# Altium footprint library ECB02蓝牙模块封装库.PcbLib: 23 footprints (part 1 of 2)
Each footprint in its own frame and in the unit in brackets; x right, y up, seen from the top. Pads: shape width x height; smd on the part's side, far side on the other; paste and mask are expansions set on the pad; w line width, h text height; cw(c..) or ccw(c..) is an arc to the next point about the centre after c.
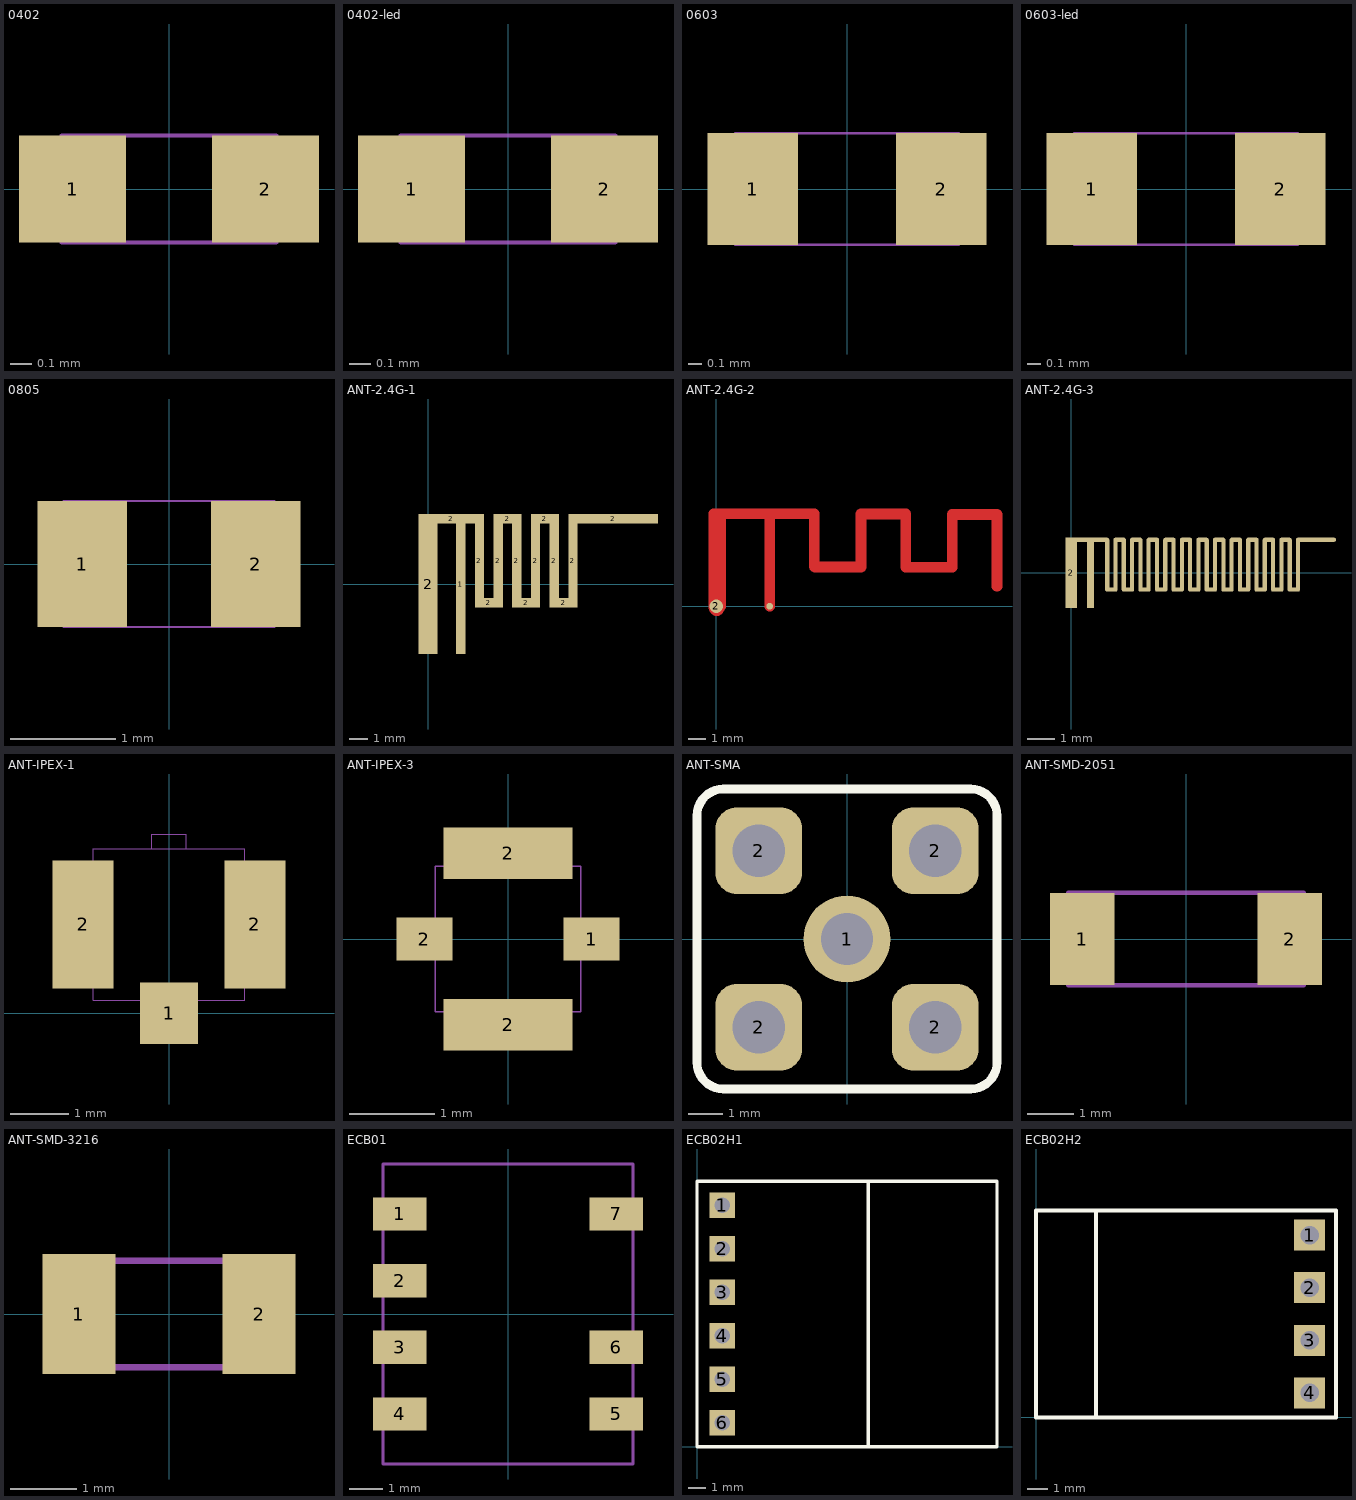
[diagram p0: the footprints below, top view; thin cyan lines are the x and y axes]

## 0402 [mm]
pads (2):
  rect 0.5x0.5 smd paste+0: 1(-0.45,0) 2(0.45,0)
Mechanical 1:
  lines w0.02: -0.25,-0.25 -0.25,0.25 ; 0.25,-0.25 0.25,0.25 ; -0.5,-0.25 -0.5,0.25 0.5,0.25 0.5,-0.25 -0.5,-0.25

## 0402-led [mm]
pads (2):
  rect 0.5x0.5 smd paste+0: 1(-0.45,0) 2(0.45,0)
Mechanical 1:
  lines w0.02: -0.25,-0.25 -0.25,0.25 ; 0.25,-0.25 0.25,0.25 ; -0.5,-0.25 0.5,-0.25 0.5,0.25 -0.5,0.25 -0.5,-0.25
  text "+" at -0.67,-0.1 h0.2

## 0603 [mm]
pads (2):
  rect 0.65x0.8 smd paste+0: 1(-0.675,0) 2(0.675,0)
Mechanical 1:
  lines w0.02: -0.5,-0.4 -0.5,0.4 ; 0.5,-0.4 0.5,0.4 ; -0.8,-0.4 0.8,-0.4 0.8,0.4 -0.8,0.4 -0.8,-0.4

## 0603-led [mm]
pads (2):
  rect 0.65x0.8 smd paste+0: 1(-0.675,0) 2(0.675,0)
Mechanical 1:
  lines w0.02: -0.5,-0.4 -0.5,0.4 ; 0.5,-0.4 0.5,0.4 ; -0.8,-0.4 -0.8,0.4 0.8,0.4 0.8,-0.4 -0.8,-0.4
  text "+" at -0.98,-0.1 h0.2

## 0805 [mm]
pads (2):
  rect 0.85x1.2 smd paste+0: 1(-0.825,0) 2(0.825,0)
Mechanical 1:
  lines w0.02: -0.6,-0.6 -0.6,0.6 ; 0.6,-0.6 0.6,0.6 ; -1,-0.6 -1,0.6 1,0.6 1,-0.6 -1,-0.6

## ANT-2.4G-1 [mm]
pads (15):
  rect 0.5x7.5 smd: 1(1.75,0)
  rect 1x7.5 smd: 2(0,0)
  rect 3.5x0.5 smd: 2(1.25,3.5)
  rect 0.5x5 smd: 2(2.75,1.25) 2(3.75,1.25) 2(4.75,1.25) 2(5.75,1.25) 2(6.75,1.25) 2(7.75,1.25)
  rect 1.5x0.5 smd: 2(3.25,-1) 2(4.25,3.5) 2(5.25,-1) 2(6.25,3.5) 2(7.25,-1)
  rect 4.8x0.5 smd: 2(9.9,3.5)

## ANT-2.4G-2 [mil]
pads (2):
  round 15 smd: 1(118,0)
  round 30 smd: 2(0,0)
Top Layer:
  lines w23.62: -6,0.13 -6,205 10,205 ; -6,3.53 ccw(c13.53,3.53) -0.28,-10.28 ; -6,6.46 ccw(c12.68,6.46) -0.53,-6.75 ; 2.28,-10.28 ccw(c-16.36,8.36) 10,8.36 ; 4.53,-6.75 ccw(c-8.68,6.46) 10,6.46 ; 10,0.13 10,205 ; 118,0.13 118,205 ; 217,88 217,205 118,205 ; 219,87 320,87 320,204 419,204 419,87 ; 421,86 522,86 522,203 621,203 621,44 ; 10,205 118,205

## ANT-2.4G-3 [mm]
pads (52):
  rect 0.25x2.55 smd paste+0 mask+0.102: 1(0.7,0)
  oval 0.8x0.15 smd paste+0 mask+0.102: 1(0.975,1.2)
  oval 0.15x1.95 smd paste+0 mask+0.102: 1(1.3,0.3) 1(1.6,0.3) 1(1.9,0.3) 1(2.2,0.3) 1(2.5,0.3) 1(2.8,0.3) 1(3.1,0.3) 1(3.4,0.3) 1(3.7,0.3) 1(4,0.3) 1(4.3,0.3) 1(4.6,0.3) 1(4.9,0.3) 1(5.2,0.3) 1(5.5,0.3) 1(5.8,0.3) 1(6.1,0.3) 1(6.4,0.3) 1(6.7,0.3) 1(7,0.3) 1(7.3,0.3) 1(7.6,0.3) 1(7.9,0.3) 1(8.2,0.3)
  oval 0.45x0.15 smd paste+0 mask+0.102: 1(1.45,-0.6) 1(1.75,1.2) 1(2.05,-0.6) 1(2.35,1.2) 1(2.65,-0.6) 1(2.95,1.2) 1(3.25,-0.6) 1(3.55,1.2) 1(3.85,-0.6) 1(4.15,1.2) 1(4.45,-0.6) 1(4.75,1.2) 1(5.05,-0.6) 1(5.35,1.2) 1(5.65,-0.6) 1(5.95,1.2) 1(6.25,-0.6) 1(6.55,1.2) 1(6.85,-0.6) 1(7.15,1.2) 1(7.45,-0.6) 1(7.75,1.2) 1(8.05,-0.6)
  oval 1.45x0.15 smd mask+0.102: 1(8.85,1.2)
  rect 0.4x2.55 smd paste+0 mask+0.102: 2(0,0)
  oval 1.025x0.15 smd mask+0.102: 2(0.312,1.2)

## ANT-IPEX-1 [mm]
pads (3):
  rect 1x1.05 smd: 1(0,0)
  rect 1.05x2.2 smd: 2(-1.475,1.525) 2(1.475,1.525)
Mechanical 1:
  lines w0.02: -1.3,0.625 -1.5,0.625 -1.5,2.425 -1.3,2.425 ; -0.3,0.225 -0.3,-0.025 0.3,-0.025 0.3,0.225 ; -0.3,2.825 -0.3,3.075 0.3,3.075 0.3,2.825 ; 1.3,0.625 1.5,0.625 1.5,2.425 1.3,2.425 ; -1.3,0.225 1.3,0.225 1.3,2.825 -1.3,2.825 -1.3,0.225

## ANT-IPEX-3 [mm]
pads (4):
  rect 0.65x0.5 smd: 1(0.975,0) 2(-0.975,0)
  rect 1.5x0.6 smd: 2(0,-1) 2(0,1)
Mechanical 1:
  lines w0.02: -0.855,-0.175 -1,-0.175 -1,0.175 -0.855,0.175 ; -0.65,-0.85 -0.65,-1 0.65,-1 0.65,-0.85 ; -0.65,0.85 -0.65,1 0.65,1 0.65,0.85 ; 0.855,-0.175 1,-0.175 1,0.175 0.855,0.175 ; -0.85,-0.85 0.85,-0.85 0.85,0.85 -0.85,0.85 -0.85,-0.85

## ANT-SMA [mm]
pads (5):
  round 2.5 hole 1.5: 1(0,0)
  rrect50% 2.5x2.5 hole 1.5: 2(-2.54,-2.54) 2(-2.54,2.54) 2(2.54,-2.54) 2(2.54,2.54)
Top Overlay:
  lines w0.254: -4.318,-3.556 ccw(c-3.556,-3.556) -3.556,-4.318 3.556,-4.318 ccw(c3.556,-3.556) 4.318,-3.556 4.318,3.556 ccw(c3.556,3.556) 3.556,4.318 -3.556,4.318 ccw(c-3.556,3.556) -4.318,3.556 -4.318,-3.556
3D body "Samtec-SMA-J-P-H-RA-TH1 (1).step": height 3.24, standoff -10.86, extent -3.556,-11.614 3.444,3.486

## ANT-SMD-2051 [mm]
height 0.85
pads (2):
  rect 1.4x2 smd: 1(-2.25,0) 2(2.25,0)
Mechanical 1:
  lines w0.1: -2.55,-1 -2.55,1 2.55,1 2.55,-1 -2.55,-1

## ANT-SMD-3216 [mm]
pads (2):
  rect 1.1x1.8 smd: 1(-1.35,0) 2(1.35,0)
Mechanical 1:
  lines w0.1: -1.1,-0.8 -1.1,0.8 ; 1.1,-0.8 1.1,0.8 ; -1.6,-0.8 -1.6,0.8 1.6,0.8 1.6,-0.8 -1.6,-0.8

## ECB01 [mm]
pads (7):
  rect 1.6x1 smd: 1(-3.25,3) 2(-3.25,1) 3(-3.25,-1) 4(-3.25,-3) 5(3.25,-3) 6(3.25,-1) 7(3.25,3)
Mechanical 1:
  lines w0.1: -3.75,-4.5 3.75,-4.5 3.75,4.5 -3.75,4.5 -3.75,-4.5

## ECB02H1 [mm]
pads (6):
  rect 1.5x1.5 hole 0.9: 1(1.48,14.1) 2(1.48,11.56) 3(1.48,9.02) 4(1.48,6.48) 5(1.48,3.94) 6(1.48,1.4)
Top Overlay:
  lines w0.2: 10,0 10,15.5 ; 0,0 0,15.5 17.5,15.5 17.5,0 0,0

## ECB02H2 [mm]
pads (4):
  rect 1.5x1.5 hole 0.9: 1(13.23,8.81) 2(13.23,6.27) 3(13.23,3.73) 4(13.23,1.19)
Top Overlay:
  lines w0.2: 2.9,0 2.9,10 ; 0,0 14.5,0 14.5,10 0,10 0,0